# Altium schematic symbol library Voltage Regulators Linear.SchLib: 10 symbols
Pins are listed as number, name and electrical type; pins without a type are passive.

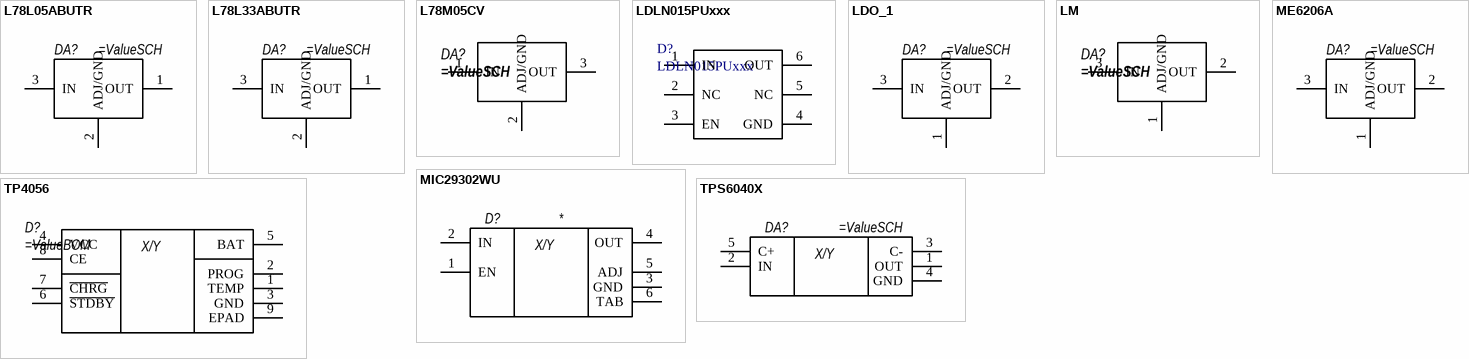
[diagram p0: symbols L78L05ABUTR to TPS6040X]

## L78L05ABUTR
designator DA?
pins: 1 OUT, 2 ADJ/GND, 3 IN

## L78L33ABUTR
designator DA?
pins: 1 OUT, 2 ADJ/GND, 3 IN

## L78M05CV
designator DA?
pins: 1 IN, 2 ADJ/GND, 3 OUT

## LDLN015PUxxx
designator D?
pins: 1 IN, 2 NC, 3 EN, 4 GND, 5 NC, 6 OUT

## LDO_1
designator DA?
pins: 1 ADJ/GND, 2 OUT, 3 IN

## LM
designator DA?
pins: 1 ADJ/GND, 2 OUT, 3 IN

## ME6206A
designator DA?
pins: 1 ADJ/GND, 2 OUT, 3 IN

## MIC29302WU
designator D?
pins: 1 EN, 2 IN, 3 GND, 4 OUT, 5 ADJ, 6 TAB
text: X/Y

## TP4056
designator D?
pins: 1 TEMP, 2 PROG, 3 GND, 4 VCC, 5 BAT, 6 ~{STDBY}, 7 ~{CHRG}, 8 CE, 9 EPAD
text: X/Y

## TPS6040X
designator DA?
pins: 1 OUT, 2 IN, 3 C-, 4 GND, 5 C+
text: X/Y